# Altium schematic symbol library AS3933.SchLib: 1 symbol
Pins are listed as number, name and electrical type; pins without a type are passive.

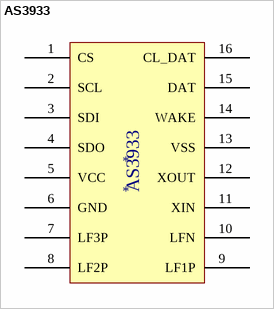
[diagram p0: symbol AS3933]

## AS3933
designator *
footprint Model Name (Footprint not found)
pins: 1 CS, 2 SCL, 3 SDI, 4 SDO, 5 VCC, 6 GND, 7 LF3P, 8 LF2P, 9 LF1P, 10 LFN, 11 XIN, 12 XOUT, 13 VSS, 14 WAKE, 15 DAT, 16 CL_DAT